# Altium schematic symbol library M80-5000000M1-04-333-00-000.SchLib: 1 symbol
Pins are listed as number, name and electrical type; pins without a type are passive.

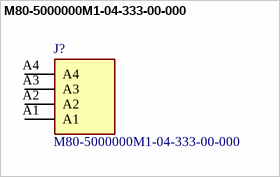
[diagram p0: symbol M80-5000000M1-04-333-00-000]

## M80-5000000M1-04-333-00-000
designator J?
Datamate Mix-Tek: 4 Pos Plug SIL Right-Angle 3.5mm THT Power Connector Jackscrews; Manufacturer_Name: Harwin; Geometry.Height: 6mm; Manufacturer_Part_Number: M80-5000000M1-04-333-00-000; Mouser Part Number: 855-0000M10433300000; Mouser Price/Stock: https://www.mouser.co.uk/ProductDetail/Harwin/M80-5000000M1-04-333-00-000?qs=W0yvOO0ixfE%252By8HRXG%252B6Ng%3D%3D; Arrow Part Number: *; Arrow Price/Stock: *; Datasheet Link: https://content.harwin.com/m/3dd0c935a279b32/original/DRG-01214-Technical-Drawing-Datasheet-M80-5000000M1-XX-XXX-00-000-pdf.pdf
footprint M805000000M10433300000
pins: A1, A2, A3, A4